# EAGLE library part HFJT1 (library CONNECTER)
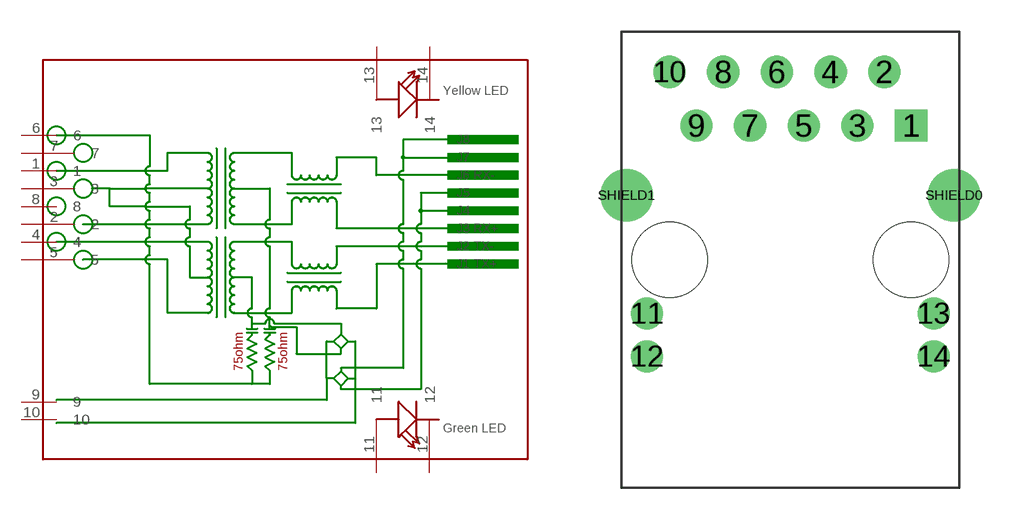
[diagram p4: symbol with the pads of HFJT1; footprint HFJT1]

Designator prefix -

## HFJT1 (NR: HFJT1-RP48-L12RL)  [HFJT1]
1  1
2  2
3  3
4  4
5  5
6  6
7  7
8  8
9  9
10  10
11  11
12  12
13  13
14  14

## Footprint HFJT1 (pad centres in mm)
drill 0.813 pad 1.524 square: 1 5.715,6.35
drill 0.813 pad 1.524: 2 4.445,8.89; 3 3.175,6.35; 4 1.905,8.89; 5 0.635,6.35; 6 -0.635,8.89; 7 -1.905,6.35; 8 -3.175,8.89; 9 -4.445,6.35; 10 -5.715,8.89; 11 -6.782,-2.54; 12 -6.782,-4.572; 13 6.782,-2.54; 14 6.782,-4.572
drill 1.651 pad 2.159: SHIELD0 7.747,3.048; SHIELD1 -7.747,3.048
hole 3.556 at -5.715,0
hole 3.556 at 5.715,0